# Altium footprint library Driver.PcbLib: 24 footprints (part 2 of 2)
Each footprint in its own frame and in the unit in brackets; x right, y up, seen from the top. Pads: shape width x height; smd on the part's side, far side on the other; paste and mask are expansions set on the pad; w line width, h text height; cw(c..) or ccw(c..) is an arc to the next point about the centre after c.
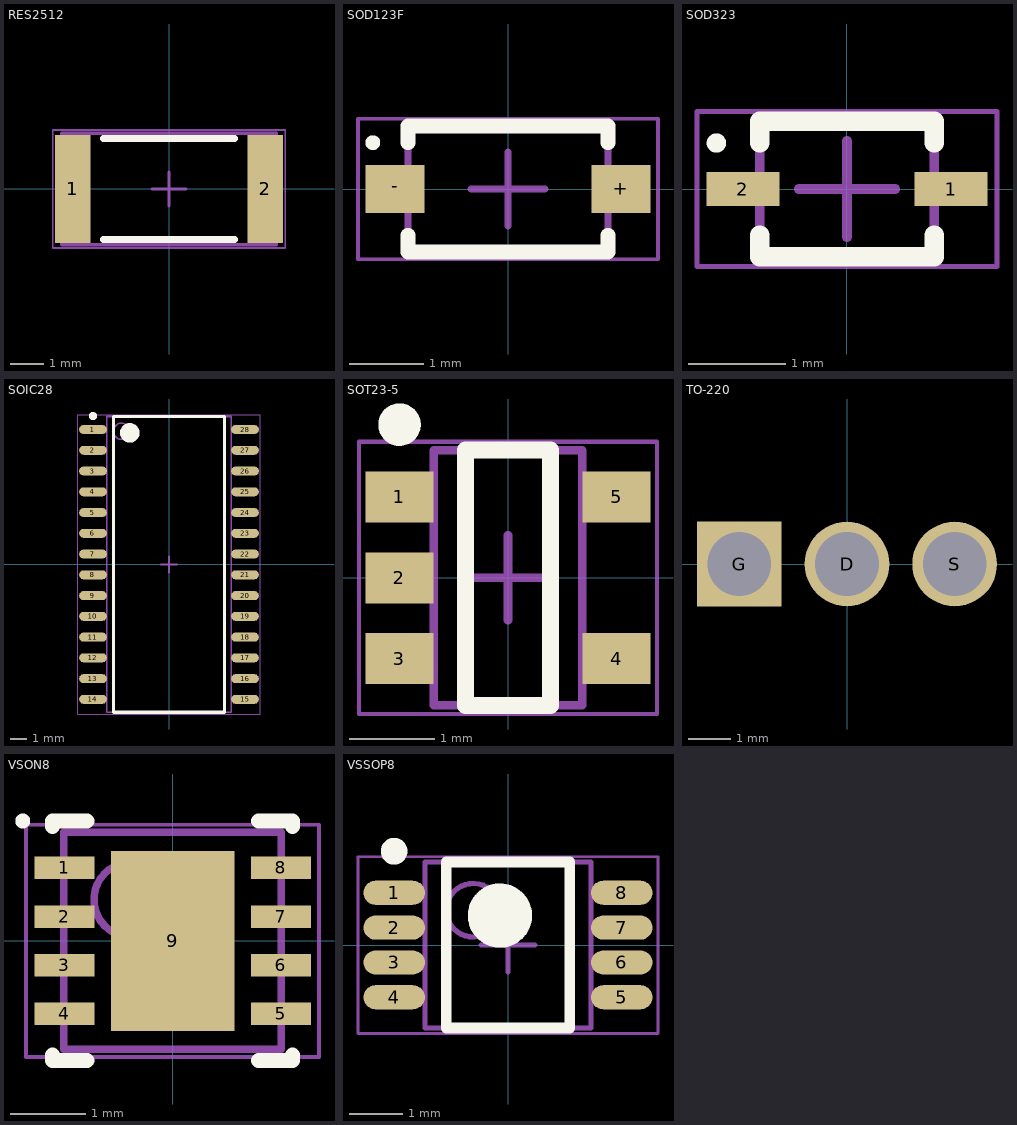
[diagram p1: the footprints below, top view; thin cyan lines are the x and y axes]

## RES2512 [mm]
height 0.6
pads (2):
  rect 1.05x3.2 smd: 1(-2.85,0) 2(2.85,0)
Top Overlay:
  lines w0.2: -1.95,-1.5 1.95,-1.5 ; -1.95,1.5 1.95,1.5
Mechanical 13:
  lines w0.1: -3.18,-1.65 3.18,-1.65 3.18,1.65 -3.18,1.65 -3.18,-1.65
Mechanical 15:
  lines w0.05: -3.45,-1.75 3.45,-1.75 3.45,1.75 -3.45,1.75 -3.45,-1.75
  lines w0.1: -0.5,0 0.5,0 ; 0,-0.5 0,0.5
3D body "Chip2PinSM127P600-8N.step": height 0.6, standoff 0, extent -3.18,-1.65 3.18,1.65

## SOD123F [mm] "SODFL, 2-Leads, Body 1,60x3,50mm, IPC High Density"
height 1.2
pads (2):
  rect 0.8x0.65 smd: +(1.525,0) -(-1.525,0)
Top Overlay:
  circle w0.1: c-1.825,0.625 r0.05
  lines w0.2: -1.35,-0.625 -1.35,-0.85 1.35,-0.85 1.35,-0.625 ; -1.35,0.625 -1.35,0.85 1.35,0.85 1.35,0.625
Mechanical 13:
  lines w0.1: -1.35,-0.85 1.35,-0.85 1.35,0.85 -1.35,0.85 -1.35,-0.85
Mechanical 15:
  lines w0.05: -2.025,-0.95 2.025,-0.95 2.025,0.95 -2.025,0.95 -2.025,-0.95
  lines w0.1: -0.5,0 0.5,0 ; 0,-0.5 0,0.5
3D body "SOD123F.step": height 1.2, standoff 0, extent -1.75,-0.85 1.75,0.85

## SOD323 [mm]
height 1.1
pads (2):
  rect 0.75x0.35 smd: 1(1.075,0) 2(-1.075,0)
Top Overlay:
  circle w0.1: c-1.35,0.475 r0.05
  lines w0.2: -0.9,-0.475 -0.9,-0.7 0.9,-0.7 0.9,-0.475 ; -0.9,0.475 -0.9,0.7 0.9,0.7 0.9,0.475
Mechanical 13:
  lines w0.1: -0.9,-0.675 -0.9,0.675 0.9,0.675 0.9,-0.675 -0.9,-0.675
Mechanical 15:
  lines w0.05: -1.55,-0.8 -1.55,0.8 1.55,0.8 1.55,-0.8 -1.55,-0.8
  lines w0.1: -0.5,0 0.5,0 ; 0,-0.5 0,0.5
3D body "SOD323.step": height 1.1, standoff 0, extent -1.25,-0.675 1.25,0.675

## SOIC28 [mm] "SOIC, 28-Leads, Body 17,90x7,50mm, Pitch 1,27mm, IPC High Density"
height 2.65
pads (28):
  oval 1.7x0.55 smd: 1(-4.65,8.255) 2(-4.65,6.985) 3(-4.65,5.715) 4(-4.65,4.445) 5(-4.65,3.175) 6(-4.65,1.905) 7(-4.65,0.635) 8(-4.65,-0.635) 9(-4.65,-1.905) 10(-4.65,-3.175) 11(-4.65,-4.445) 12(-4.65,-5.715) 13(-4.65,-6.985) 14(-4.65,-8.255) 15(4.65,-8.255) 16(4.65,-6.985) 17(4.65,-5.715) 18(4.65,-4.445) 19(4.65,-3.175) 20(4.65,-1.905) 21(4.65,-0.635) 22(4.65,0.635) 23(4.65,1.905) 24(4.65,3.175) 25(4.65,4.445) 26(4.65,5.715) 27(4.65,6.985) 28(4.65,8.255)
Top Overlay:
  circle w0.6: c-2.4,8.05 r0.3
  circle w0.25: c-4.65,9.08 r0.125
  lines w0.2: -3.4,-9.05 3.4,-9.05 3.4,9.05 -3.4,9.05 -3.4,-9.05
Mechanical 13:
  circle w0.1: c-2.9,8.15 r0.5
  lines w0.1: -3.8,-9.05 3.8,-9.05 3.8,9.05 -3.8,9.05 -3.8,-9.05
Mechanical 15:
  lines w0.05: -5.575,-9.15 5.575,-9.15 5.575,9.15 -5.575,9.15 -5.575,-9.15
  lines w0.1: -0.5,0 0.5,0 ; 0,-0.5 0,0.5
3D body "SOIC28.step": height 2.65, standoff 0, extent -5.162,-9.05 5.162,9.05

## SOT23-5 [mm] "SOT23, 5-Leads, Body 2,90x2,80mm, Pitch 0,95mm, IPC High Density"
height 1.45
pads (5):
  rect 0.8x0.6 smd: 1(-1.275,0.95) 2(-1.275,0) 3(-1.275,-0.95) 4(1.275,-0.95) 5(1.275,0.95)
Top Overlay:
  circle w0.25: c-1.275,1.8 r0.125
  lines w0.2: -0.5,-1.5 -0.5,1.5 0.5,1.5 0.5,-1.5 -0.5,-1.5
Mechanical 13:
  lines w0.1: -0.875,-1.5 0.875,-1.5 0.875,1.5 -0.875,1.5 -0.875,-1.5
Mechanical 15:
  lines w0.05: -1.75,-1.6 1.75,-1.6 1.75,1.6 -1.75,1.6 -1.75,-1.6
  lines w0.1: -0.5,0 0.5,0 ; 0,-0.5 0,0.5
3D body "SOT23-5.step": height 1.45, standoff 0, extent -1.6,-1.5 1.6,1.5

## TO-220 [mm]
pads (3):
  round 2 hole 1.5: D(0,0) S(2.54,0)
  rect 2x2 hole 1.5: G(-2.54,0)

## VSON8 [mm] "SON, 8-Leads, Body 3,00x3,00mm, Pitch 0,65mm, Thermal Pad 2,40x1,65mm, IPC High Density"
height 1
pads (9):
  rect 0.8x0.3 smd: 1(-1.445,0.975) 2(-1.445,0.325) 3(-1.445,-0.325) 4(-1.445,-0.975) 5(1.445,-0.975) 6(1.445,-0.325) 7(1.445,0.325) 8(1.445,0.975)
  rect 1.65x2.4 smd: 9(0,0)
Top Overlay:
  circle w0.1: c-2,1.6 r0.05
  lines w0.2: -1.6,-1.525 -1.6,-1.6 -1.145,-1.6 ; -1.6,1.525 -1.6,1.6 -1.145,1.6 ; 1.145,-1.6 1.6,-1.6 1.6,-1.525 ; 1.145,1.6 1.6,1.6 1.6,1.525
Mechanical 13:
  circle w0.1: c-0.55,0.55 r0.5
  lines w0.1: -1.45,-1.45 -1.45,1.45 1.45,1.45 1.45,-1.45 -1.45,-1.45
Mechanical 15:
  lines w0.05: -1.955,-1.55 -1.955,1.55 1.955,1.55 1.955,-1.55 -1.955,-1.55
  lines w0.1: -0.5,0 0.5,0 ; 0,-0.5 0,0.5
3D body "VSON8.step": height 1, standoff 0, extent -1.451,-1.45 1.451,1.45

## VSSOP8 [mm] "TSOP, 8-Leads, Body 3,00x3,00mm, Pitch 0,65mm, IPC High Density"
height 1.1
pads (8):
  oval 1.15x0.45 smd: 1(-2.125,0.975) 2(-2.125,0.325) 3(-2.125,-0.325) 4(-2.125,-0.975) 5(2.125,-0.975) 6(2.125,-0.325) 7(2.125,0.325) 8(2.125,0.975)
Top Overlay:
  circle w0.6: c-0.15,0.55 r0.3
  circle w0.25: c-2.125,1.75 r0.125
  lines w0.2: -1.15,-1.55 1.15,-1.55 1.15,1.55 -1.15,1.55 -1.15,-1.55
Mechanical 13:
  circle w0.1: c-0.65,0.65 r0.5
  lines w0.1: -1.55,-1.55 1.55,-1.55 1.55,1.55 -1.55,1.55 -1.55,-1.55
Mechanical 15:
  lines w0.05: -2.8,-1.65 2.8,-1.65 2.8,1.65 -2.8,1.65 -2.8,-1.65
  lines w0.1: -0.5,0 0.5,0 ; 0,-0.5 0,0.5
3D body "VSSOP8.step": height 1.1, standoff 0, extent -2.45,-1.55 2.45,1.55